# Altium integrated library Infineon_Power_MOSFET.IntLib: 1448 symbols (part 40 of 47)
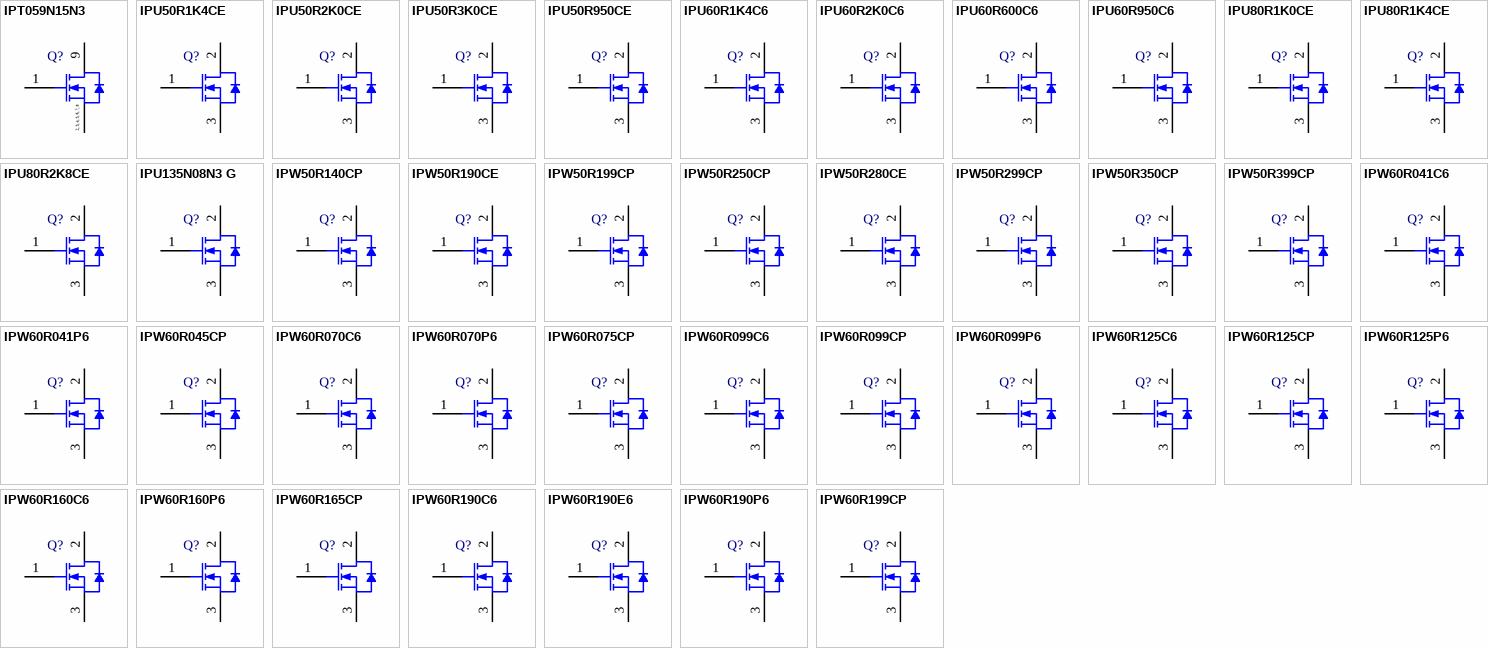
[diagram p76: symbols IPT059N15N3 to IPW60R199CP]

## IPW60R041C6
designator Q?
N-Channel CoolMOS C6 Power-Transistor, 600 V VDS, 77.5 A ID, -55 to 150 degC, PG-TO247-3-44, Tube, Green; Manufacturer: Infineon; PartNumber: IPW60R041C6; Green: TRUE; ID (max): 77.5 A; IDpuls (max): 272 A; Polarity: N; Ptot (max): 481 W; QG: 290 nC; RDS (on) (max): 41 mOhm; Rth: 0.26 K/W; RthJA (max): 62 K/W; VDS (max): 600 V; VGS(th) (max): 3.5 V; VGS(th) (min): 2.5 V; DatasheetVersion: Rev. 2.1; PackageVersion: Rev. 03; PackageReference: PG-TO247-3-44; PackageDescription: 3-Pin Plastic (Green) Transistor Single Outline Package, 15.94 x 20.95 mm Body, 5.44 mm Pitch; Supplier 1: Mouser; Supplier Part Number 1: 726-IPW60R041C6; Supplier 2: Newark; Supplier Part Number 2: 30T1850; Supplier 3: Farnell; Supplier Part Number 3: 1860840; Supplier 4: Digi-Key; Supplier Part Number 4: IPW60R041C6-ND; Halogen-free: available; Packing: Tube; RthJC (max): 0.26 K/W; Technology: CoolMOS C6; Mounting Technology: Through Hole; ComponentLink1Description: Manufacturer URL; ComponentLink1URL: http://www.infineon.com/; ComponentLink2Description: Datasheet; ComponentLink2URL: http://www.infineon.com/dgdl/IPW60R041C6_2.1_.pdf?folderId=db3a3043163797a6011637d4bae7003b&fileId=db3a304327b897500127f24dd83c3c09; ComponentLink3Description: Package Specification; ComponentLink3URL: http://www.infineon.com/cms/packages/Leaded_and_through-hole/P-PG-TO247/P-PG-TO247-3-44.html?__locale=en
footprint INF-PG-TO247-3-44 (FM, 3-Leads, Body 5.02x15.94mm, Pitch 5.44mm)
pins: 1 GATE, 2 DRAIN, 3 SOURCE

## IPW60R041P6
designator Q?
N-Channel CoolMOS(TM) P6 Power Transistor, 600 V VDS, -55 to 150 degC, PG-TO247-3, Tube, Green; Manufacturer: Infineon; PartNumber: IPW60R041P6; Green: TRUE; Polarity: FALSE; RDS (on) (max): 41 mOhm; VDS (max): 600 V; DatasheetVersion: Rev. 2.0; PackageVersion: Rev. 05, 07/2010; PackageReference: PG-TO247-3-44_A; PackageDescription: 3-Pin Plastic (Green) Transistor Single Outline Package, 15.915 x 20.95 mm Body, 5.44 mm Pitch; Supplier 1: Mouser; Supplier Part Number 1: N/A; Halogen-free: TRUE; Packing: Tube; Mounting Technology: Through Hole; ComponentLink1Description: Manufacturer URL; ComponentLink1URL: http://www.infineon.com/; ComponentLink2Description: Datasheet; ComponentLink2URL: http://www.infineon.com/dgdl/DS_IPW60R041P6_2_0.pdf?folderId=db3a3043156fd5730115c736bcc70ff2&fileId=5546d461464245d3014694fd2814695e; ComponentLink3Description: Package Specification; ComponentLink3URL: http://www.infineon.com/dgdl/IJW120R070T1-final+datasheet+2+0.pdf?folderId=db3a304341e0aed0014203508c870e38&fileId=db3a304341e0aed0014203597c420ec5
footprint INF-PG-TO247-3-44_A (FM, 3-Leads, Body 15.915x5.02mm, Pitch 5.44mm)
pins: 1 GATE, 2 DRAIN, 3 SOURCE

## IPW60R045CP
designator Q?
N-Channel CoolMOS Power-Transistor, 600 V VDS, 60 A ID, -55 to 150 degC, PG-TO247-3-44, Tube, Green; Manufacturer: Infineon; PartNumber: IPW60R045CP; Green: TRUE; ID (max): 60 A; IDpuls (max): 230 A; Polarity: N; Ptot (max): 431 W; QG: 150 nC; RDS (on) (max): 45 mOhm; Rth: 0.3 K/W; RthJA (max): 62 K/W; RthJC (max): 0.29 K/W; VDS (max): 600 V; VGS(th) (max): 3.5 V; VGS(th) (min): 2.5 V; DatasheetVersion: Rev. 2.2; PackageVersion: Rev. 03; PackageReference: PG-TO247-3-44; PackageDescription: 3-Pin Plastic (Green) Transistor Single Outline Package, 15.94 x 20.95 mm Body, 5.44 mm Pitch; Supplier 1: Mouser; Supplier Part Number 1: 726-IPW60R045CP; Supplier 2: Newark; Supplier Part Number 2: 33P7194; Supplier 3: Farnell; Supplier Part Number 3: 1664083; Supplier 4: Digi-Key; Supplier Part Number 4: IPW60R045CPIN-ND; Halogen-free: available; Packing: Tube; Technology: CoolMOS CP; Mounting Technology: Through Hole; ComponentLink1Description: Manufacturer URL; ComponentLink1URL: http://www.infineon.com/; ComponentLink2Description: Datasheet; ComponentLink2URL: http://www.infineon.com/dgdl/IPW60R045CP_rev2.2+PCN.pdf?folderId=db3a304412b407950112b408e8c90004&fileId=db3a304412b407950112b42d8e55489b; ComponentLink3Description: Package Specification; ComponentLink3URL: http://www.infineon.com/cms/packages/Leaded_and_through-hole/P-PG-TO247/P-PG-TO247-3-44.html?__locale=en
footprint INF-PG-TO247-3-44 (FM, 3-Leads, Body 5.02x15.94mm, Pitch 5.44mm)
pins: 1 GATE, 2 DRAIN, 3 SOURCE

## IPW60R070C6
designator Q?
N-Channel CoolMOS C6 Power-Transistor, 600 V VDS, 53 A ID, -55 to 150 degC, PG-TO247-3-44, Tube, Green; Manufacturer: Infineon; PartNumber: IPW60R070C6; Green: TRUE; ID (max): 53 A; IDpuls (max): 159 A; Polarity: N; Ptot (max): 391 W; QG: 170 nC; RDS (on) (max): 70 mOhm; Rth: 0.32 K/W; RthJA (max): 62 K/W; VDS (max): 600 V; VGS(th) (max): 3.5 V; VGS(th) (min): 2.5 V; DatasheetVersion: Rev. 2.1; PackageVersion: Rev. 03; PackageReference: PG-TO247-3-44; PackageDescription: 3-Pin Plastic (Green) Transistor Single Outline Package, 15.94 x 20.95 mm Body, 5.44 mm Pitch; Supplier 1: Mouser; Supplier Part Number 1: 726-IPW60R070C6; Supplier 2: Farnell; Supplier Part Number 2: 1860839; Supplier 3: Digi-Key; Supplier Part Number 3: IPW60R070C6-ND; Halogen-free: available; Packing: Tube; RthJC (max): 0.32 K/W; Technology: CoolMOS C6; Mounting Technology: Through Hole; ComponentLink1Description: Manufacturer URL; ComponentLink1URL: http://www.infineon.com/; ComponentLink2Description: Datasheet; ComponentLink2URL: http://www.infineon.com/dgdl/IPW60R070C6_V2.1a_.pdf?folderId=db3a3043156fd5730115c736bcc70ff2&fileId=db3a30432313ff5e01232862aa644ac5; ComponentLink3Description: Package Specification; ComponentLink3URL: http://www.infineon.com/cms/packages/Leaded_and_through-hole/P-PG-TO247/P-PG-TO247-3-44.html?__locale=en
footprint INF-PG-TO247-3-44 (FM, 3-Leads, Body 5.02x15.94mm, Pitch 5.44mm)
pins: 1 GATE, 2 DRAIN, 3 SOURCE

## IPW60R070P6
designator Q?
N-Channel CoolMOS(TM) P6 Power Transistor, 600 V VDS, -55 to 150 degC, PG-TO247-3, Tube, Green; Manufacturer: Infineon; PartNumber: IPW60R070P6; Green: TRUE; Polarity: FALSE; RDS (on) (max): 70 mOhm; VDS (max): 600 V; DatasheetVersion: Rev. 2.0; PackageVersion: Rev. 05, 07/2010; PackageReference: PG-TO247-3-44_A; PackageDescription: 3-Pin Plastic (Green) Transistor Single Outline Package, 15.915 x 20.95 mm Body, 5.44 mm Pitch; Supplier 1: Mouser; Supplier Part Number 1: N/A; Halogen-free: TRUE; Packing: Tube; Mounting Technology: Through Hole; ComponentLink1Description: Manufacturer URL; ComponentLink1URL: http://www.infineon.com/; ComponentLink2Description: Datasheet; ComponentLink2URL: http://www.infineon.com/dgdl/DS_IPW60R070P6_2_0.pdf?folderId=db3a3043156fd5730115c736bcc70ff2&fileId=5546d461464245d3014694ab3f43692e; ComponentLink3Description: Package Specification; ComponentLink3URL: http://www.infineon.com/dgdl/IJW120R070T1-final+datasheet+2+0.pdf?folderId=db3a304341e0aed0014203508c870e38&fileId=db3a304341e0aed0014203597c420ec5
footprint INF-PG-TO247-3-44_A (FM, 3-Leads, Body 15.915x5.02mm, Pitch 5.44mm)
pins: 1 GATE, 2 DRAIN, 3 SOURCE

## IPW60R075CP
designator Q?
N-Channel CoolMOS Power-Transistor, 600 V VDS, 39 A ID, -55 to 150 degC, PG-TO247-3-44, Tube, Green; Manufacturer: Infineon; PartNumber: IPW60R075CP; Green: TRUE; ID (max): 39 A; IDpuls (max): 130 A; Polarity: N; Ptot (max): 313 W; QG: 27 nC; RDS (on) (max): 75 mOhm; Rth: 1.2 K/W; RthJA (max): 62 K/W; RthJC (max): 0.4 K/W; VDS (max): 600 V; VGS(th) (max): 3.5 V; VGS(th) (min): 2.5 V; DatasheetVersion: Rev. 2.3; PackageVersion: Rev. 03; PackageReference: PG-TO247-3-44; PackageDescription: 3-Pin Plastic (Green) Transistor Single Outline Package, 15.94 x 20.95 mm Body, 5.44 mm Pitch; Supplier 1: Mouser; Supplier Part Number 1: 726-IPW60R075CP; Supplier 2: Farnell; Supplier Part Number 2: 1664084; Supplier 3: Digi-Key; Supplier Part Number 3: IPW60R075CPIN-ND; Halogen-free: available; Packing: Tube; Technology: CoolMOS CP; Mounting Technology: Through Hole; ComponentLink1Description: Manufacturer URL; ComponentLink1URL: http://www.infineon.com/; ComponentLink2Description: Datasheet; ComponentLink2URL: http://www.infineon.com/dgdl/IPW60R075CP_rev2+3_PCN.pdf?folderId=db3a304314dca38901152838487312ae&fileId=db3a304314dca38901152855d78912ce; ComponentLink3Description: Package Specification; ComponentLink3URL: http://www.infineon.com/cms/packages/Leaded_and_through-hole/P-PG-TO247/P-PG-TO247-3-44.html?__locale=en
footprint INF-PG-TO247-3-44 (FM, 3-Leads, Body 5.02x15.94mm, Pitch 5.44mm)
pins: 1 GATE, 2 DRAIN, 3 SOURCE

## IPW60R099C6
designator Q?
N-Channel CoolMOS C6 Power-Transistor, 600 V VDS, 38 A ID, -55 to 150 degC, PG-TO247-3-44, Tube, Green; Manufacturer: Infineon; PartNumber: IPW60R099C6; Green: TRUE; ID (max): 38 A; IDpuls (max): 112 A; Polarity: N; Ptot (max): 278 W; QG: 119 nC; RDS (on) (max): 99 mOhm; Rth: 0.45 K/W; RthJA (max): 62 K/W; VDS (max): 600 V; VGS(th) (max): 3.5 V; VGS(th) (min): 2.5 V; DatasheetVersion: Rev. 2.1; PackageVersion: Rev. 03; PackageReference: PG-TO247-3-44; PackageDescription: 3-Pin Plastic (Green) Transistor Single Outline Package, 15.94 x 20.95 mm Body, 5.44 mm Pitch; Supplier 1: Mouser; Supplier Part Number 1: 726-IPW60R099C6; Supplier 2: Digi-Key; Supplier Part Number 2: IPW60R099C6-ND; Halogen-free: available; Packing: Tube; RthJC (max): 0.45 K/W; Technology: CoolMOS C6; Mounting Technology: Through Hole; ComponentLink1Description: Manufacturer URL; ComponentLink1URL: http://www.infineon.com/; ComponentLink2Description: Datasheet; ComponentLink2URL: http://www.infineon.com/dgdl/IPW60R099C6_2_1.pdf?folderId=db3a3043163797a6011638933eda014b&fileId=db3a30432313ff5e012394d9f7c606ae; ComponentLink3Description: Package Specification; ComponentLink3URL: http://www.infineon.com/cms/packages/Leaded_and_through-hole/P-PG-TO247/P-PG-TO247-3-44.html?__locale=en
footprint INF-PG-TO247-3-44 (FM, 3-Leads, Body 5.02x15.94mm, Pitch 5.44mm)
pins: 1 GATE, 2 DRAIN, 3 SOURCE

## IPW60R099CP
designator Q?
N-Channel CoolMOS Power-Transistor, 600 V VDS, 31 A ID, -55 to 150 degC, PG-TO247-3-44, Tube, Green; Manufacturer: Infineon; PartNumber: IPW60R099CP; Green: TRUE; ID (max): 31 A; IDpuls (max): 93 A; Polarity: N; Ptot (max): 255 W; QG: 60 nC; RDS (on) (max): 99 mOhm; Rth: 0.5 K/W; RthJA (max): 62 K/W; VDS (max): 600 V; VGS(th) (max): 3.5 V; VGS(th) (min): 2.5 V; DatasheetVersion: Rev. 2.1; PackageVersion: Rev. 03; PackageReference: PG-TO247-3-44; PackageDescription: 3-Pin Plastic (Green) Transistor Single Outline Package, 15.94 x 20.95 mm Body, 5.44 mm Pitch; Supplier 1: Mouser; Supplier Part Number 1: 726-IPW60R099CP; Supplier 2: Newark; Supplier Part Number 2: 61M6806; Supplier 3: Farnell; Supplier Part Number 3: 1471753; Supplier 4: Digi-Key; Supplier Part Number 4: IPW60R099CP-ND; Halogen-free: available; Packing: Tube; RthJC (max): 0.5 K/W; Technology: CoolMOS CP; Mounting Technology: Through Hole; ComponentLink1Description: Manufacturer URL; ComponentLink1URL: http://www.infineon.com/; ComponentLink2Description: Datasheet; ComponentLink2URL: http://www.infineon.com/dgdl/IPW60R099CP_rev2%5B1%5D.1_PCN.pdf?folderId=db3a304412b407950112b408e8c90004&fileId=db3a304412b407950112b42ca4c24745; ComponentLink3Description: Package Specification; ComponentLink3URL: http://www.infineon.com/cms/packages/Leaded_and_through-hole/P-PG-TO247/P-PG-TO247-3-44.html?__locale=en
footprint INF-PG-TO247-3-44 (FM, 3-Leads, Body 5.02x15.94mm, Pitch 5.44mm)
pins: 1 GATE, 2 DRAIN, 3 SOURCE

## IPW60R099P6
designator Q?
N-Channel CoolMOS(TM) P6 Power Transistor, 600 V VDS, -55 to 150 degC, PG-TO247-3, Tube, Green; Manufacturer: Infineon; PartNumber: IPW60R099P6; Green: TRUE; Polarity: FALSE; RDS (on) (max): 99 mOhm; VDS (max): 600 V; DatasheetVersion: Rev. 2.0; PackageVersion: Rev. 05, 07/2010; PackageReference: PG-TO247-3-44_A; PackageDescription: 3-Pin Plastic (Green) Transistor Single Outline Package, 15.915 x 20.95 mm Body, 5.44 mm Pitch; Supplier 1: Mouser; Supplier Part Number 1: N/A; Halogen-free: TRUE; Packing: Tube; Mounting Technology: Through Hole; ComponentLink1Description: Manufacturer URL; ComponentLink1URL: http://www.infineon.com/; ComponentLink2Description: Datasheet; ComponentLink2URL: http://www.infineon.com/dgdl/DS_IPW60R099P6_2_0.pdf?folderId=db3a3043156fd5730115c736bcc70ff2&fileId=5546d461464245d301469454f01668f1; ComponentLink3Description: Package Specification; ComponentLink3URL: http://www.infineon.com/dgdl/IJW120R070T1-final+datasheet+2+0.pdf?folderId=db3a304341e0aed0014203508c870e38&fileId=db3a304341e0aed0014203597c420ec5
footprint INF-PG-TO247-3-44_A (FM, 3-Leads, Body 15.915x5.02mm, Pitch 5.44mm)
pins: 1 GATE, 2 DRAIN, 3 SOURCE

## IPW60R125C6
designator Q?
N-Channel CoolMOS C6 Power-Transistor, 600 V VDS, 30 A ID, -55 to 150 degC, PG-TO247-3-44, Tube, Green; Manufacturer: Infineon; PartNumber: IPW60R125C6; Green: TRUE; ID (max): 30 A; IDpuls (max): 89 A; Polarity: N; Ptot (max): 219 W; QG: 96 nC; RDS (on) (max): 125 mOhm; Rth: 0.57 K/W; RthJA (max): 62 K/W; VDS (max): 600 V; VGS(th) (max): 3.5 V; VGS(th) (min): 2.5 V; DatasheetVersion: Rev. 2.1; PackageVersion: Rev. 03; PackageReference: PG-TO247-3-44; PackageDescription: 3-Pin Plastic (Green) Transistor Single Outline Package, 15.94 x 20.95 mm Body, 5.44 mm Pitch; Supplier 1: Mouser; Supplier Part Number 1: 726-IPW60R125C6; Supplier 2: Digi-Key; Supplier Part Number 2: IPW60R125C6-ND; Halogen-free: available; Packing: Tube; RthJC (max): 0.57 K/W; Technology: CoolMOS C6; Mounting Technology: Through Hole; ComponentLink1Description: Manufacturer URL; ComponentLink1URL: http://www.infineon.com/; ComponentLink2Description: Datasheet; ComponentLink2URL: http://www.infineon.com/dgdl/IPW60R125C6_2_1.pdf?folderId=db3a3043163797a6011637d4bae7003b&fileId=db3a30432313ff5e01235b1ae8fc4910; ComponentLink3Description: Package Specification; ComponentLink3URL: http://www.infineon.com/cms/packages/Leaded_and_through-hole/P-PG-TO247/P-PG-TO247-3-44.html?__locale=en
footprint INF-PG-TO247-3-44 (FM, 3-Leads, Body 5.02x15.94mm, Pitch 5.44mm)
pins: 1 GATE, 2 DRAIN, 3 SOURCE

## IPW60R125CP
designator Q?
N-Channel CoolMOS Power-Transistor, 600 V VDS, 25 A ID, -55 to 150 degC, PG-TO247-3-44, Tube, Green; Manufacturer: Infineon; PartNumber: IPW60R125CP; Green: TRUE; ID (max): 25 A; IDpuls (max): 82 A; Polarity: N; Ptot (max): 208 W; QG: 53 nC; RDS (on) (max): 125 mOhm; Rth: 0.6 K/W; RthJA (max): 62 K/W; VDS (max): 600 V; VGS(th) (max): 3.5 V; VGS(th) (min): 2.5 V; DatasheetVersion: Rev. 2.2; PackageVersion: Rev. 03; PackageReference: PG-TO247-3-44; PackageDescription: 3-Pin Plastic (Green) Transistor Single Outline Package, 15.94 x 20.95 mm Body, 5.44 mm Pitch; Supplier 1: Mouser; Supplier Part Number 1: 726-IPW60R125CP; Supplier 2: Newark; Supplier Part Number 2: 47W3484; Supplier 3: Farnell; Supplier Part Number 3: 2212865; Supplier 4: Digi-Key; Supplier Part Number 4: IPW60R125CP-ND; Halogen-free: available; Packing: Tube; RthJC (max): 0.6 K/W; Technology: CoolMOS CP; Mounting Technology: Through Hole; ComponentLink1Description: Manufacturer URL; ComponentLink1URL: http://www.infineon.com/; ComponentLink2Description: Datasheet; ComponentLink2URL: http://www.infineon.com/dgdl/IPW60R125CP_rev2%5B1%5D.2_PCN.pdf?folderId=db3a304412b407950112b408e8c90004&fileId=db3a304412b407950112b42e5bf349af; ComponentLink3Description: Package Specification; ComponentLink3URL: http://www.infineon.com/cms/packages/Leaded_and_through-hole/P-PG-TO247/P-PG-TO247-3-44.html?__locale=en
footprint INF-PG-TO247-3-44 (FM, 3-Leads, Body 5.02x15.94mm, Pitch 5.44mm)
pins: 1 GATE, 2 DRAIN, 3 SOURCE

## IPW60R125P6
designator Q?
N-Channel CoolMOS(TM) P6 Power Transistor, 600 V VDS, -55 to 150 degC, PG-TO247-3, Tube, Green; Manufacturer: Infineon; PartNumber: IPW60R125P6; Green: TRUE; Polarity: FALSE; RDS (on) (max): 125 mOhm; VDS (max): 600 V; DatasheetVersion: Rev. 2.0; PackageVersion: Rev. 05, 07/2010; PackageReference: PG-TO247-3-44_A; PackageDescription: 3-Pin Plastic (Green) Transistor Single Outline Package, 15.915 x 20.95 mm Body, 5.44 mm Pitch; Supplier 1: Mouser; Supplier Part Number 1: N/A; Halogen-free: TRUE; Packing: Tube; Mounting Technology: Through Hole; ComponentLink1Description: Manufacturer URL; ComponentLink1URL: http://www.infineon.com/; ComponentLink2Description: Datasheet; ComponentLink2URL: http://www.infineon.com/dgdl/DS_IPW60R125P6_2_0.pdf?folderId=db3a3043156fd5730115c736bcc70ff2&fileId=5546d461464245d301468b30f1c166d2; ComponentLink3Description: Package Specification; ComponentLink3URL: http://www.infineon.com/dgdl/IJW120R070T1-final+datasheet+2+0.pdf?folderId=db3a304341e0aed0014203508c870e38&fileId=db3a304341e0aed0014203597c420ec5
footprint INF-PG-TO247-3-44_A (FM, 3-Leads, Body 15.915x5.02mm, Pitch 5.44mm)
pins: 1 GATE, 2 DRAIN, 3 SOURCE

## IPW60R160C6
designator Q?
N-Channel CoolMOS C6 Power-Transistor, 600 V VDS, 23.8 A ID, -55 to 150 degC, PG-TO247-3-44, Tube, Green; Manufacturer: Infineon; PartNumber: IPW60R160C6; Green: TRUE; ID (max): 23.8 A; IDpuls (max): 70 A; Polarity: N; Ptot (max): 176 W; QG: 75 nC; RDS (on) (max): 160 mOhm; Rth: 0.71 K/W; RthJA (max): 62 K/W; VDS (max): 600 V; VGS(th) (max): 3.5 V; VGS(th) (min): 2.5 V; DatasheetVersion: Rev. 2.1; PackageVersion: Rev. 03; PackageReference: PG-TO247-3-44; PackageDescription: 3-Pin Plastic (Green) Transistor Single Outline Package, 15.94 x 20.95 mm Body, 5.44 mm Pitch; Supplier 1: Mouser; Supplier Part Number 1: 726-IPW60R160C6; Supplier 2: Newark; Supplier Part Number 2: 30T1853; Supplier 3: Farnell; Supplier Part Number 3: 1860836; Supplier 4: Digi-Key; Supplier Part Number 4: IPW60R160C6-ND; Halogen-free: available; Packing: Tube; RthJC (max): 0.71 K/W; Technology: CoolMOS C6; Mounting Technology: Through Hole; ComponentLink1Description: Manufacturer URL; ComponentLink1URL: http://www.infineon.com/; ComponentLink2Description: Datasheet; ComponentLink2URL: http://www.infineon.com/dgdl/IPW60R160C6_2_1.pdf?folderId=db3a3043163797a6011638933eda014b&fileId=db3a304323b87bc20123f06faac140e3; ComponentLink3Description: Package Specification; ComponentLink3URL: http://www.infineon.com/cms/packages/Leaded_and_through-hole/P-PG-TO247/P-PG-TO247-3-44.html?__locale=en
footprint INF-PG-TO247-3-44 (FM, 3-Leads, Body 5.02x15.94mm, Pitch 5.44mm)
pins: 1 GATE, 2 DRAIN, 3 SOURCE

## IPW60R160P6
designator Q?
N-Channel CoolMOS(TM) P6 Power Transistor, 600 V VDS, -55 to 150 degC, PG-TO247-3, Tube, Green; Manufacturer: Infineon; PartNumber: IPW60R160P6; Green: TRUE; Polarity: FALSE; RDS (on) (max): 160 mOhm; VDS (max): 600 V; DatasheetVersion: Rev. 2.1; PackageVersion: Rev. 05, 07/2010; PackageReference: PG-TO247-3-44_A; PackageDescription: 3-Pin Plastic (Green) Transistor Single Outline Package, 15.915 x 20.95 mm Body, 5.44 mm Pitch; Supplier 1: Mouser; Supplier Part Number 1: N/A; Halogen-free: TRUE; Packing: Tube; Mounting Technology: Through Hole; ComponentLink1Description: Manufacturer URL; ComponentLink1URL: http://www.infineon.com/; ComponentLink2Description: Datasheet; ComponentLink2URL: http://www.infineon.com/dgdl/DS_IPx60R160P6_2_1.pdf?folderId=db3a3043156fd5730115c736bcc70ff2&fileId=db3a3043414fd3ef01415efd27711e0b; ComponentLink3Description: Package Specification; ComponentLink3URL: http://www.infineon.com/dgdl/IJW120R070T1-final+datasheet+2+0.pdf?folderId=db3a304341e0aed0014203508c870e38&fileId=db3a304341e0aed0014203597c420ec5
footprint INF-PG-TO247-3-44_A (FM, 3-Leads, Body 15.915x5.02mm, Pitch 5.44mm)
pins: 1 GATE, 2 DRAIN, 3 SOURCE

## IPW60R165CP
designator Q?
N-Channel CoolMOS Power-Transistor, 600 V VDS, 21 A ID, -55 to 150 degC, PG-TO247-3-44, Tube, Green; Manufacturer: Infineon; PartNumber: IPW60R165CP; Green: TRUE; ID (max): 21 A; IDpuls (max): 61 A; Polarity: N; Ptot (max): 192 W; QG: 39 nC; RDS (on) (max): 165 mOhm; Rth: 0.65 K/W; RthJA (max): 62 K/W; VDS (max): 600 V; VGS(th) (max): 3.5 V; VGS(th) (min): 2.5 V; DatasheetVersion: Rev. 2.2; PackageVersion: Rev. 03; PackageReference: PG-TO247-3-44; PackageDescription: 3-Pin Plastic (Green) Transistor Single Outline Package, 15.94 x 20.95 mm Body, 5.44 mm Pitch; Supplier 1: Mouser; Supplier Part Number 1: 726-IPW60R165CP; Supplier 2: Newark; Supplier Part Number 2: 61M6808; Supplier 3: Farnell; Supplier Part Number 3: 1471755; Supplier 4: Digi-Key; Supplier Part Number 4: IPW60R165CP-ND; Halogen-free: available; Packing: Tube; RthJC (max): 0.65 K/W; Technology: CoolMOS CP; Mounting Technology: Through Hole; ComponentLink1Description: Manufacturer URL; ComponentLink1URL: http://www.infineon.com/; ComponentLink2Description: Datasheet; ComponentLink2URL: http://www.infineon.com/dgdl/IPW60R165CP_rev2%5B1%5D.2_PCN.pdf?folderId=db3a304412b407950112b408e8c90004&fileId=db3a304412b407950112b42d915e489f; ComponentLink3Description: Package Specification; ComponentLink3URL: http://www.infineon.com/cms/packages/Leaded_and_through-hole/P-PG-TO247/P-PG-TO247-3-44.html?__locale=en
footprint INF-PG-TO247-3-44 (FM, 3-Leads, Body 5.02x15.94mm, Pitch 5.44mm)
pins: 1 GATE, 2 DRAIN, 3 SOURCE

## IPW60R190C6
designator Q?
N-Channel CoolMOS C6 Power-Transistor, 600 V VDS, 20.2 A ID, -55 to 150 degC, PG-TO247-3-44, Tube, Green; Manufacturer: Infineon; PartNumber: IPW60R190C6; Green: TRUE; ID (max): 20.2 A; IDpuls (max): 59 A; Polarity: N; Ptot (max): 151 W; QG: 63 nC; RDS (on) (max): 190 mOhm; Rth: 0.83 K/W; RthJA (max): 62 K/W; VDS (max): 600 V; VGS(th) (max): 3.5 V; VGS(th) (min): 2.5 V; DatasheetVersion: Rev. 2.1; PackageVersion: Rev. 03; PackageReference: PG-TO247-3-44; PackageDescription: 3-Pin Plastic (Green) Transistor Single Outline Package, 15.94 x 20.95 mm Body, 5.44 mm Pitch; Supplier 1: Mouser; Supplier Part Number 1: 726-IPW60R190C6; Supplier 2: Farnell; Supplier Part Number 2: 1860834; Supplier 3: Digi-Key; Supplier Part Number 3: IPW60R190C6-ND; Halogen-free: available; Packing: Tube; RthJC (max): 0.83 K/W; Technology: CoolMOS C6; Mounting Technology: Through Hole; ComponentLink1Description: Manufacturer URL; ComponentLink1URL: http://www.infineon.com/; ComponentLink2Description: Datasheet; ComponentLink2URL: http://www.infineon.com/dgdl/IPW60R190C6_2_1.pdf?folderId=db3a30431ff98815012019af55de3f2c&fileId=db3a304320d39d590121f895e912201a; ComponentLink3Description: Package Specification; ComponentLink3URL: http://www.infineon.com/cms/packages/Leaded_and_through-hole/P-PG-TO247/P-PG-TO247-3-44.html?__locale=en
footprint INF-PG-TO247-3-44 (FM, 3-Leads, Body 5.02x15.94mm, Pitch 5.44mm)
pins: 1 GATE, 2 DRAIN, 3 SOURCE

## IPW60R190E6
designator Q?
N-Channel CoolMOS E6 Power-Transistor, 600 V VDS, 20.2 A ID, -55 to 150 degC, PG-TO247-3-44, Tube, Green; Manufacturer: Infineon; PartNumber: IPW60R190E6; Green: TRUE; ID (max): 20.2 A; IDpuls (max): 59 A; Polarity: N; Ptot (max): 151 W; QG: 63 nC; RDS (on) (max): 190 mOhm; Rth: 0.83 K/W; RthJA (max): 62 K/W; VDS (max): 600 V; VGS(th) (max): 3.5 V; VGS(th) (min): 2.5 V; DatasheetVersion: Rev. 2.0; PackageVersion: Rev. 03; PackageReference: PG-TO247-3-44; PackageDescription: 3-Pin Plastic (Green) Transistor Single Outline Package, 15.94 x 20.95 mm Body, 5.44 mm Pitch; Supplier 1: Mouser; Supplier Part Number 1: 726-IPW60R190E6; Supplier 2: Digi-Key; Supplier Part Number 2: IPW60R190E6-ND; Halogen-free: available; Packing: Tube; RthJC (max): 0.83 K/W; Technology: CoolMOS E6; Mounting Technology: Through Hole; ComponentLink1Description: Manufacturer URL; ComponentLink1URL: http://www.infineon.com/; ComponentLink2Description: Datasheet; ComponentLink2URL: http://www.infineon.com/dgdl/IPW60R190E6_2_0.pdf?folderId=db3a3043163797a6011637d4bae7003b&fileId=db3a3043284aacd801286cadc33a2932; ComponentLink3Description: Package Specification; ComponentLink3URL: http://www.infineon.com/cms/packages/Leaded_and_through-hole/P-PG-TO247/P-PG-TO247-3-44.html?__locale=en
footprint INF-PG-TO247-3-44 (FM, 3-Leads, Body 5.02x15.94mm, Pitch 5.44mm)
pins: 1 GATE, 2 DRAIN, 3 SOURCE

## IPW60R190P6
designator Q?
N-Channel CoolMOS(TM) P6 Power Transistor, 600 V VDS, -55 to 150 degC, PG-TO247-3, Tube, Green; Manufacturer: Infineon; PartNumber: IPW60R190P6; Green: TRUE; Polarity: FALSE; RDS (on) (max): 190 mOhm; VDS (max): 600 V; DatasheetVersion: Rev. 2.1; PackageVersion: Rev. 05, 07/2010; PackageReference: PG-TO247-3-44_A; PackageDescription: 3-Pin Plastic (Green) Transistor Single Outline Package, 15.915 x 20.95 mm Body, 5.44 mm Pitch; Supplier 1: Digi-Key; Supplier Part Number 1: IPW60R190P6-ND; Supplier 2: Farnell; Supplier Part Number 2: 2420505; Supplier 3: Newark; Supplier Part Number 3: 54X5233; Halogen-free: TRUE; Packing: Tube; Mounting Technology: Through Hole; ComponentLink1Description: Manufacturer URL; ComponentLink1URL: http://www.infineon.com/; ComponentLink2Description: Datasheet; ComponentLink2URL: http://www.infineon.com/dgdl/DS_IPx60R190P6_2_1.pdf?folderId=db3a3043156fd5730115c736bcc70ff2&fileId=db3a30433f2e70c5013f37c80e24240f; ComponentLink3Description: Package Specification; ComponentLink3URL: http://www.infineon.com/dgdl/IJW120R070T1-final+datasheet+2+0.pdf?folderId=db3a304341e0aed0014203508c870e38&fileId=db3a304341e0aed0014203597c420ec5
footprint INF-PG-TO247-3-44_A (FM, 3-Leads, Body 15.915x5.02mm, Pitch 5.44mm)
pins: 1 GATE, 2 DRAIN, 3 SOURCE

## IPW60R199CP
designator Q?
N-Channel CoolMOS Power-Transistor, 600 V VDS, 16 A ID, -55 to 150 degC, PG-TO247-3-44, Tube, Green; Manufacturer: Infineon; PartNumber: IPW60R199CP; Green: TRUE; ID (max): 16 A; IDpuls (max): 51 A; Polarity: N; Ptot (max): 139 W; QG: 32 nC; RDS (on) (max): 199 mOhm; Rth: 0.9 K/W; RthJA (max): 62 K/W; VDS (max): 600 V; VGS(th) (max): 3.5 V; VGS(th) (min): 2.5 V; DatasheetVersion: Rev. 2.3; PackageVersion: Rev. 03; PackageReference: PG-TO247-3-44; PackageDescription: 3-Pin Plastic (Green) Transistor Single Outline Package, 15.94 x 20.95 mm Body, 5.44 mm Pitch; Supplier 1: Mouser; Supplier Part Number 1: 726-IPW60R199CP; Supplier 2: Farnell; Supplier Part Number 2: 1471756; Supplier 3: Digi-Key; Supplier Part Number 3: IPW60R199CP-ND; Halogen-free: available; Packing: Tube; RthJC (max): 0.9 K/W; Technology: CoolMOS CP; Mounting Technology: Through Hole; ComponentLink1Description: Manufacturer URL; ComponentLink1URL: http://www.infineon.com/; ComponentLink2Description: Datasheet; ComponentLink2URL: http://www.infineon.com/dgdl/IPW60R199CP_rev2.3.pdf?folderId=db3a304412b407950112b408e8c90004&fileId=db3a304412b407950112b42e44b8498f; ComponentLink3Description: Package Specification; ComponentLink3URL: http://www.infineon.com/cms/packages/Leaded_and_through-hole/P-PG-TO247/P-PG-TO247-3-44.html?__locale=en
footprint INF-PG-TO247-3-44 (FM, 3-Leads, Body 5.02x15.94mm, Pitch 5.44mm)
pins: 1 GATE, 2 DRAIN, 3 SOURCE

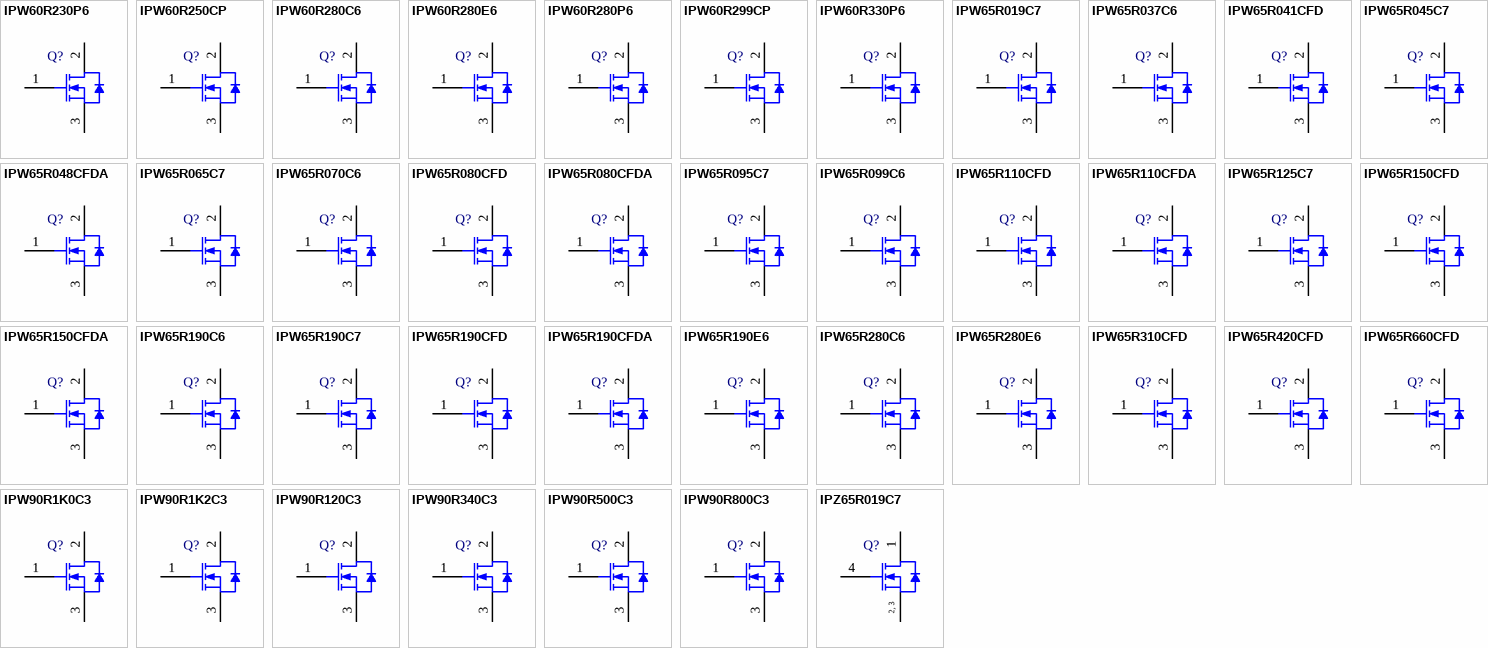
[diagram p32: symbols IPW60R230P6 to IPZ65R019C7]

## IPW60R230P6
designator Q?
N-Channel CoolMOS(TM) P6 Power Transistor, 600 V VDS, -55 to 150 degC, PG-TO247-3, Tube, Green; Manufacturer: Infineon; PartNumber: IPW60R230P6; Green: TRUE; Polarity: FALSE; RDS (on) (max): 230 mOhm; VDS (max): 600 V; DatasheetVersion: Rev. 2.1; PackageVersion: Rev. 05, 07/2010; PackageReference: PG-TO247-3-44_A; PackageDescription: 3-Pin Plastic (Green) Transistor Single Outline Package, 15.915 x 20.95 mm Body, 5.44 mm Pitch; Supplier 1: Mouser; Supplier Part Number 1: N/A; Halogen-free: TRUE; Packing: Tube; Mounting Technology: Through Hole; ComponentLink1Description: Manufacturer URL; ComponentLink1URL: http://www.infineon.com/; ComponentLink2Description: Datasheet; ComponentLink2URL: http://www.infineon.com/dgdl/DS_IPx60R230P6_2_1.pdf?folderId=db3a3043156fd5730115c736bcc70ff2&fileId=db3a3043414fd3ef01415f8ab7321ec1; ComponentLink3Description: Package Specification; ComponentLink3URL: http://www.infineon.com/dgdl/IJW120R070T1-final+datasheet+2+0.pdf?folderId=db3a304341e0aed0014203508c870e38&fileId=db3a304341e0aed0014203597c420ec5
footprint INF-PG-TO247-3-44_A (FM, 3-Leads, Body 15.915x5.02mm, Pitch 5.44mm)
pins: 1 GATE, 2 DRAIN, 3 SOURCE

## IPW60R250CP
designator Q?
N-Channel CoolMOS Power-Transistor, 600 V VDS, 12 A ID, -55 to 150 degC, PG-TO247-3-44, Tube, Green; Manufacturer: Infineon; PartNumber: IPW60R250CP; Green: TRUE; ID (max): 12 A; IDpuls (max): 40 A; Polarity: N; Ptot (max): 104 W; QG: 26 nC; RDS (on) (max): 250 mOhm; Rth: 1.2 K/W; RthJA (max): 62 K/W; VDS (max): 600 V; VGS(th) (max): 3.5 V; VGS(th) (min): 2.5 V; DatasheetVersion: Rev. 2.3; PackageVersion: Rev. 03; PackageReference: PG-TO247-3-44; PackageDescription: 3-Pin Plastic (Green) Transistor Single Outline Package, 15.94 x 20.95 mm Body, 5.44 mm Pitch; Supplier 1: Mouser; Supplier Part Number 1: 726-IPW60R250CP; Supplier 2: Digi-Key; Supplier Part Number 2: IPW60R250CP-ND; Halogen-free: available; Packing: Tube; RthJC (max): 1.2 K/W; Technology: CoolMOS CP; Mounting Technology: Through Hole; ComponentLink1Description: Manufacturer URL; ComponentLink1URL: http://www.infineon.com/; ComponentLink2Description: Datasheet; ComponentLink2URL: http://www.infineon.com/dgdl/IPW60R250CP_rev2.3_PCN.pdf?folderId=db3a30431ff98815012019af55de3f2c&fileId=db3a304320896aa201208b38102a008d; ComponentLink3Description: Package Specification; ComponentLink3URL: http://www.infineon.com/cms/packages/Leaded_and_through-hole/P-PG-TO247/P-PG-TO247-3-44.html?__locale=en
footprint INF-PG-TO247-3-44 (FM, 3-Leads, Body 5.02x15.94mm, Pitch 5.44mm)
pins: 1 GATE, 2 DRAIN, 3 SOURCE

## IPW60R280C6
designator Q?
N-Channel CoolMOS C6 Power-Transistor, 600 V VDS, 13.8 A ID, -55 to 150 degC, PG-TO247-3-44, Tube, Green; Manufacturer: Infineon; PartNumber: IPW60R280C6; Green: TRUE; ID (max): 13.8 A; IDpuls (max): 40 A; Polarity: N; Ptot (max): 104 W; QG: 43 nC; RDS (on) (max): 280 mOhm; Rth: 1.2 K/W; RthJA (max): 62 K/W; VDS (max): 600 V; VGS(th) (max): 3.5 V; VGS(th) (min): 2.5 V; DatasheetVersion: Rev. 2.1; PackageVersion: Rev. 03; PackageReference: PG-TO247-3-44; PackageDescription: 3-Pin Plastic (Green) Transistor Single Outline Package, 15.94 x 20.95 mm Body, 5.44 mm Pitch; Supplier 1: Mouser; Supplier Part Number 1: 726-IPW60R280C6; Supplier 2: Newark; Supplier Part Number 2: 30T1855; Supplier 3: Farnell; Supplier Part Number 3: 1860833; Supplier 4: Digi-Key; Supplier Part Number 4: IPW60R280C6-ND; Halogen-free: available; Packing: Tube; RthJC (max): 1.2 K/W; Technology: CoolMOS C6; Mounting Technology: Through Hole; ComponentLink1Description: Manufacturer URL; ComponentLink1URL: http://www.infineon.com/; ComponentLink2Description: Datasheet; ComponentLink2URL: http://www.infineon.com/dgdl/IPW60R280C6_2_1.pdf?folderId=db3a3043163797a6011638933eda014b&fileId=db3a30432313ff5e0123a4478e7f275a; ComponentLink3Description: Package Specification; ComponentLink3URL: http://www.infineon.com/cms/packages/Leaded_and_through-hole/P-PG-TO247/P-PG-TO247-3-44.html?__locale=en
footprint INF-PG-TO247-3-44 (FM, 3-Leads, Body 5.02x15.94mm, Pitch 5.44mm)
pins: 1 GATE, 2 DRAIN, 3 SOURCE

## IPW60R280E6
designator Q?
N-Channel CoolMOS E6 Power-Transistor, 600 V VDS, 13.8 A ID, -55 to 150 degC, PG-TO247-3-44, Tube, Green; Manufacturer: Infineon; PartNumber: IPW60R280E6; Green: TRUE; ID (max): 13.8 A; IDpuls (max): 40 A; Polarity: N; Ptot (max): 104 W; QG: 43 nC; RDS (on) (max): 280 mOhm; Rth: 1.2 K/W; RthJA (max): 62 K/W; VDS (max): 600 V; VGS(th) (max): 3.5 V; VGS(th) (min): 2.5 V; DatasheetVersion: Rev. 2.0; PackageVersion: Rev. 03; PackageReference: PG-TO247-3-44; PackageDescription: 3-Pin Plastic (Green) Transistor Single Outline Package, 15.94 x 20.95 mm Body, 5.44 mm Pitch; Supplier 1: Mouser; Supplier Part Number 1: 726-IPW60R280E6; Supplier 2: Digi-Key; Supplier Part Number 2: IPW60R280E6-ND; Halogen-free: available; Packing: Tube; RthJC (max): 1.2 K/W; Technology: CoolMOS E6; Mounting Technology: Through Hole; ComponentLink1Description: Manufacturer URL; ComponentLink1URL: http://www.infineon.com/; ComponentLink2Description: Datasheet; ComponentLink2URL: http://www.infineon.com/dgdl/IPW60R280E6_2.0.pdf?folderId=db3a3043163797a6011638933eda014b&fileId=db3a304327b8975001281fb7b4f54507; ComponentLink3Description: Package Specification; ComponentLink3URL: http://www.infineon.com/cms/packages/Leaded_and_through-hole/P-PG-TO247/P-PG-TO247-3-44.html?__locale=en
footprint INF-PG-TO247-3-44 (FM, 3-Leads, Body 5.02x15.94mm, Pitch 5.44mm)
pins: 1 GATE, 2 DRAIN, 3 SOURCE

## IPW60R280P6
designator Q?
N-Channel CoolMOS(TM) P6 Power Transistor, 600 V VDS, -55 to 150 degC, PG-TO247-3, Tube, Green; Manufacturer: Infineon; PartNumber: IPW60R280P6; Green: TRUE; Polarity: FALSE; RDS (on) (max): 280 mOhm; VDS (max): 600 V; DatasheetVersion: Rev. 2.1; PackageVersion: Rev. 05, 07/2010; PackageReference: PG-TO247-3-44_A; PackageDescription: 3-Pin Plastic (Green) Transistor Single Outline Package, 15.915 x 20.95 mm Body, 5.44 mm Pitch; Supplier 1: Farnell; Supplier Part Number 1: 2420504; Supplier 2: Newark; Supplier Part Number 2: 54X5234; Halogen-free: TRUE; Packing: Tube; Mounting Technology: Through Hole; ComponentLink1Description: Manufacturer URL; ComponentLink1URL: http://www.infineon.com/; ComponentLink2Description: Datasheet; ComponentLink2URL: http://www.infineon.com/dgdl/DS_IPx60R280P6_2_1.pdf?folderId=db3a3043156fd5730115c736bcc70ff2&fileId=db3a3043416e106e01416e269e3e0021; ComponentLink3Description: Package Specification; ComponentLink3URL: http://www.infineon.com/dgdl/IJW120R070T1-final+datasheet+2+0.pdf?folderId=db3a304341e0aed0014203508c870e38&fileId=db3a304341e0aed0014203597c420ec5
footprint INF-PG-TO247-3-44_A (FM, 3-Leads, Body 15.915x5.02mm, Pitch 5.44mm)
pins: 1 GATE, 2 DRAIN, 3 SOURCE

## IPW60R299CP
designator Q?
N-Channel CoolMOS Power-Transistor, 600 V VDS, 11 A ID, -55 to 150 degC, PG-TO247-3-44, Tube, Green; Manufacturer: Infineon; PartNumber: IPW60R299CP; Green: TRUE; ID (max): 11 A; IDpuls (max): 34 A; Polarity: N; Ptot (max): 96 W; QG: 22 nC; RDS (on) (max): 299 mOhm; Rth: 1.3 K/W; RthJA (max): 62 K/W; VDS (max): 600 V; VGS(th) (max): 3.5 V; VGS(th) (min): 2.5 V; DatasheetVersion: Rev. 2.2; PackageVersion: Rev. 03; PackageReference: PG-TO247-3-44; PackageDescription: 3-Pin Plastic (Green) Transistor Single Outline Package, 15.94 x 20.95 mm Body, 5.44 mm Pitch; Supplier 1: Mouser; Supplier Part Number 1: 726-IPW60R299CP; Supplier 2: Digi-Key; Supplier Part Number 2: IPW60R299CP-ND; Halogen-free: available; Packing: Tube; RthJC (max): 1.3 K/W; Technology: CoolMOS CP; Mounting Technology: Through Hole; ComponentLink1Description: Manufacturer URL; ComponentLink1URL: http://www.infineon.com/; ComponentLink2Description: Datasheet; ComponentLink2URL: http://www.infineon.com/dgdl/IPW60R299CP_rev2%5B1%5D.2_PCN.pdf?folderId=db3a304412b407950112b408e8c90004&fileId=db3a304412b407950112b42c74ff4703; ComponentLink3Description: Package Specification; ComponentLink3URL: http://www.infineon.com/cms/packages/Leaded_and_through-hole/P-PG-TO247/P-PG-TO247-3-44.html?__locale=en
footprint INF-PG-TO247-3-44 (FM, 3-Leads, Body 5.02x15.94mm, Pitch 5.44mm)
pins: 1 GATE, 2 DRAIN, 3 SOURCE

## IPW60R330P6
designator Q?
N-Channel CoolMOS(TM) P6 Power Transistor, 600 V VDS, -55 to 150 degC, PG-TO247-3, Tube, Green; Manufacturer: Infineon; PartNumber: IPW60R330P6; Green: TRUE; Polarity: FALSE; RDS (on) (max): 330 mOhm; VDS (max): 600 V; DatasheetVersion: Rev. 2.1; PackageVersion: Rev. 05, 07/2010; PackageReference: PG-TO247-3-44_A; PackageDescription: 3-Pin Plastic (Green) Transistor Single Outline Package, 15.915 x 20.95 mm Body, 5.44 mm Pitch; Supplier 1: Mouser; Supplier Part Number 1: N/A; Halogen-free: TRUE; Packing: Tube; Mounting Technology: Through Hole; ComponentLink1Description: Manufacturer URL; ComponentLink1URL: http://www.infineon.com/; ComponentLink2Description: Datasheet; ComponentLink2URL: http://www.infineon.com/dgdl/DS_IPx60R330P6_2_1.pdf?folderId=db3a3043156fd5730115c736bcc70ff2&fileId=db3a3043416e106e01416e6a5f240149; ComponentLink3Description: Package Specification; ComponentLink3URL: http://www.infineon.com/dgdl/IJW120R070T1-final+datasheet+2+0.pdf?folderId=db3a304341e0aed0014203508c870e38&fileId=db3a304341e0aed0014203597c420ec5
footprint INF-PG-TO247-3-44_A (FM, 3-Leads, Body 15.915x5.02mm, Pitch 5.44mm)
pins: 1 GATE, 2 DRAIN, 3 SOURCE

## IPW65R019C7
designator Q?
N-Channel CoolMOS(TM) C7 Power Transistor, 650 V VDS, -55 to 150 degC, PG-TO247-3, Tube, Green; Manufacturer: Infineon; PartNumber: IPW65R019C7; Green: TRUE; Polarity: FALSE; RDS (on) (max): 19 mOhm; VDS (max): 650 V; DatasheetVersion: Rev. 2.1; PackageVersion: Rev. 05, 07/2010; PackageReference: PG-TO247-3-44_A; PackageDescription: 3-Pin Plastic (Green) Transistor Single Outline Package, 15.915 x 20.95 mm Body, 5.44 mm Pitch; Supplier 1: Farnell; Supplier Part Number 1: 2420490; Supplier 2: Newark; Supplier Part Number 2: 52X6082; Supplier 3: Mouser; Supplier Part Number 3: 726-IPW65R019C7; Halogen-free: available; Packing: Tube; Mounting Technology: Through Hole; ComponentLink1Description: Manufacturer URL; ComponentLink1URL: http://www.infineon.com/; ComponentLink2Description: Datasheet; ComponentLink2URL: http://www.infineon.com/dgdl/DS_IPW65R019C7_2_1.pdf?folderId=db3a30431ff98815012019af55de3f2c&fileId=db3a30433e78ea82013e791a9f140093; ComponentLink3Description: Package Specification; ComponentLink3URL: http://www.infineon.com/dgdl/IJW120R070T1-final+datasheet+2+0.pdf?folderId=db3a304341e0aed0014203508c870e38&fileId=db3a304341e0aed0014203597c420ec5
footprint INF-PG-TO247-3-44_A (FM, 3-Leads, Body 15.915x5.02mm, Pitch 5.44mm)
pins: 1 GATE, 2 DRAIN, 3 SOURCE

## IPW65R037C6
designator Q?
N-Channel CoolMOS C6 Power-Transistor, 650 V VDS, 83.2 A ID, -55 to 150 degC, PG-TO247-3-44, Tube, Green; Manufacturer: Infineon; PartNumber: IPW65R037C6; Green: TRUE; ID (max): 83.2 A; IDpuls (max): 297 A; Polarity: N; Ptot (max): 500 W; QG: 330 nC; RDS (on) (max): 37 mOhm; Rth: 0.25 K/W; RthJA (max): 62 K/W; VDS (max): 650 V; VGS(th) (max): 3.5 V; VGS(th) (min): 2.5 V; DatasheetVersion: Rev. 2.0; PackageVersion: Rev. 03; PackageReference: PG-TO247-3-44; PackageDescription: 3-Pin Plastic (Green) Transistor Single Outline Package, 15.94 x 20.95 mm Body, 5.44 mm Pitch; Supplier 1: Mouser; Supplier Part Number 1: 726-IPW65R037C6; Halogen-free: available; Packing: Tube; RthJC (max): 0.25 K/W; Technology: CoolMOS C6; Mounting Technology: Through Hole; ComponentLink1Description: Manufacturer URL; ComponentLink1URL: http://www.infineon.com/; ComponentLink2Description: Datasheet; ComponentLink2URL: http://www.infineon.com/dgdl/IPW65R037C6_2_0.pdf?folderId=db3a3043163797a6011637d4bae7003b&fileId=db3a3043337a914d0133877a719210a9; ComponentLink3Description: Package Specification; ComponentLink3URL: http://www.infineon.com/cms/packages/Leaded_and_through-hole/P-PG-TO247/P-PG-TO247-3-44.html?__locale=en
footprint INF-PG-TO247-3-44 (FM, 3-Leads, Body 5.02x15.94mm, Pitch 5.44mm)
pins: 1 GATE, 2 DRAIN, 3 SOURCE

## IPW65R041CFD
designator Q?
N-Channel CoolMOS CFD2 Power-Transistor, 650 V VDS, 68.5 A ID, -55 to 150 degC, PG-TO247-3-44, Tube, Green; Manufacturer: Infineon; PartNumber: IPW65R041CFD; Green: TRUE; ID (max): 68.5 A; IDpuls (max): 255 A; Polarity: N; Ptot (max): 500 W; QG: 300 nC; RDS (on) (max): 41 mOhm; Rth: 0.25 K/W; RthJA (max): 62 K/W; VDS (max): 650 V; VGS(th) (max): 4.5 V; VGS(th) (min): 3.5 V; DatasheetVersion: Rev. 2.0; PackageVersion: Rev. 03; PackageReference: PG-TO247-3-44; PackageDescription: 3-Pin Plastic (Green) Transistor Single Outline Package, 15.94 x 20.95 mm Body, 5.44 mm Pitch; Supplier 1: Mouser; Supplier Part Number 1: 726-IPW65R041CFD; Supplier 2: Digi-Key; Supplier Part Number 2: IPW65R041CFD-ND; Halogen-free: available; Packing: Tube; RthJC (max): 0.25 K/W; Technology: CoolMOS CFD2; Mounting Technology: Through Hole; ComponentLink1Description: Manufacturer URL; ComponentLink1URL: http://www.infineon.com/; ComponentLink2Description: Datasheet; ComponentLink2URL: http://www.infineon.com/dgdl/DS_IPW65R041CFD__2_01_.pdf?folderId=db3a3043156fd5730115c736bcc70ff2&fileId=db3a3043337a914d01338408155d60f9; ComponentLink3Description: Package Specification; ComponentLink3URL: http://www.infineon.com/cms/packages/Leaded_and_through-hole/P-PG-TO247/P-PG-TO247-3-44.html?__locale=en
footprint INF-PG-TO247-3-44 (FM, 3-Leads, Body 5.02x15.94mm, Pitch 5.44mm)
pins: 1 GATE, 2 DRAIN, 3 SOURCE

## IPW65R045C7
designator Q?
N-Channel CoolMOS(TM) C7 Power Transistor, 650 V VDS, -55 to 150 degC, PG-TO247-3, Tube, Green; Manufacturer: Infineon; PartNumber: IPW65R045C7; Green: TRUE; Polarity: FALSE; RDS (on) (max): 45 mOhm; VDS (max): 650 V; DatasheetVersion: Rev. 2.1; PackageVersion: Rev. 05, 07/2010; PackageReference: PG-TO247-3-44_A; PackageDescription: 3-Pin Plastic (Green) Transistor Single Outline Package, 15.915 x 20.95 mm Body, 5.44 mm Pitch; Supplier 1: Farnell; Supplier Part Number 1: 2420493; Supplier 2: Newark; Supplier Part Number 2: 54X5235; Supplier 3: Mouser; Supplier Part Number 3: 726-IPW65R045C7; Halogen-free: available; Packing: Tube; Mounting Technology: Through Hole; ComponentLink1Description: Manufacturer URL; ComponentLink1URL: http://www.infineon.com/; ComponentLink2Description: Datasheet; ComponentLink2URL: http://www.infineon.com/dgdl/DS_IPW65R045C7_2_1.pdf?folderId=db3a30431ff98815012019af55de3f2c&fileId=db3a30433e78ea82013e7901c1200031; ComponentLink3Description: Package Specification; ComponentLink3URL: http://www.infineon.com/dgdl/IJW120R070T1-final+datasheet+2+0.pdf?folderId=db3a304341e0aed0014203508c870e38&fileId=db3a304341e0aed0014203597c420ec5
footprint INF-PG-TO247-3-44_A (FM, 3-Leads, Body 15.915x5.02mm, Pitch 5.44mm)
pins: 1 GATE, 2 DRAIN, 3 SOURCE

## IPW65R048CFDA
designator Q?
N-Channel CoolMOS CFDA Power-Transistor, 650 V VDS, 63.3 A ID, -40 to 150 degC, PG-TO247-3-44, Tube, Green; Manufacturer: Infineon; PartNumber: IPW65R048CFDA; Green: TRUE; ID (max): 63.3 A; IDpuls (max): 228 A; Polarity: N; Ptot (max): 500 W; QG: 270 nC; RDS (on) (max): 48 mOhm; Rth: 0.25 K/W; RthJA (max): 62 K/W; VDS (max): 650 V; VGS(th) (max): 4.5 V; VGS(th) (min): 3.5 V; DatasheetVersion: Rev. 2.0; PackageVersion: Rev. 03; PackageReference: PG-TO247-3-44; PackageDescription: 3-Pin Plastic (Green) Transistor Single Outline Package, 15.94 x 20.95 mm Body, 5.44 mm Pitch; Halogen-free: available; Packing: Tube; RthJC (max): 0.25 K/W; Technology: CoolMOS CFDA; Mounting Technology: Through Hole; ComponentLink1Description: Manufacturer URL; ComponentLink1URL: http://www.infineon.com/; ComponentLink2Description: Datasheet; ComponentLink2URL: http://www.infineon.com/dgdl/DS_IPW65R048CFDA_2_0.pdf?folderId=db3a3043163797a6011637d4bae7003b&fileId=db3a304336797ff90136ba294542255a; ComponentLink3Description: Package Specification; ComponentLink3URL: http://www.infineon.com/cms/packages/Leaded_and_through-hole/P-PG-TO247/P-PG-TO247-3-44.html?__locale=en
footprint INF-PG-TO247-3-44 (FM, 3-Leads, Body 5.02x15.94mm, Pitch 5.44mm)
pins: 1 GATE, 2 DRAIN, 3 SOURCE

## IPW65R065C7
designator Q?
N-Channel CoolMOS(TM) C7 Power Transistor, 650 V VDS, -55 to 150 degC, PG-TO247-3, Tube, Green; Manufacturer: Infineon; PartNumber: IPW65R065C7; Green: TRUE; Polarity: FALSE; RDS (on) (max): 65 mOhm; VDS (max): 650 V; DatasheetVersion: Rev. 2.0; PackageVersion: Rev. 05, 07/2010; PackageReference: PG-TO247-3-44_A; PackageDescription: 3-Pin Plastic (Green) Transistor Single Outline Package, 15.915 x 20.95 mm Body, 5.44 mm Pitch; Supplier 1: Mouser; Supplier Part Number 1: N/A; Halogen-free: TRUE; Packing: Tube; Mounting Technology: Through Hole; ComponentLink1Description: Manufacturer URL; ComponentLink1URL: http://www.infineon.com/; ComponentLink2Description: Datasheet; ComponentLink2URL: http://www.infineon.com/dgdl/DS_IPW65R065C7_2_0.pdf?folderId=db3a3043156fd5730115c736bcc70ff2&fileId=db3a30434208e5fd01420db363eb63ee; ComponentLink3Description: Package Specification; ComponentLink3URL: http://www.infineon.com/dgdl/IJW120R070T1-final+datasheet+2+0.pdf?folderId=db3a304341e0aed0014203508c870e38&fileId=db3a304341e0aed0014203597c420ec5
footprint INF-PG-TO247-3-44_A (FM, 3-Leads, Body 15.915x5.02mm, Pitch 5.44mm)
pins: 1 GATE, 2 DRAIN, 3 SOURCE

## IPW65R070C6
designator Q?
N-Channel CoolMOS C6 Power-Transistor, 650 V VDS, 53.5 A ID, -55 to 150 degC, PG-TO247-3-44, Tube, Green; Manufacturer: Infineon; PartNumber: IPW65R070C6; Green: TRUE; ID (max): 53.5 A; IDpuls (max): 150 A; Polarity: N; Ptot (max): 391 W; QG: 170 nC; RDS (on) (max): 70 mOhm; Rth: 0.32 K/W; RthJA (max): 62 K/W; VDS (max): 650 V; VGS(th) (max): 3.5 V; VGS(th) (min): 2.5 V; DatasheetVersion: Rev. 2.0; PackageVersion: Rev. 03; PackageReference: PG-TO247-3-44; PackageDescription: 3-Pin Plastic (Green) Transistor Single Outline Package, 15.94 x 20.95 mm Body, 5.44 mm Pitch; Supplier 1: Mouser; Supplier Part Number 1: 726-IPW65R070C6; Supplier 2: Digi-Key; Supplier Part Number 2: IPW65R070C6-ND; Halogen-free: available; Packing: Tube; RthJC (max): 0.32 K/W; Technology: CoolMOS C6; Mounting Technology: Through Hole; ComponentLink1Description: Manufacturer URL; ComponentLink1URL: http://www.infineon.com/; ComponentLink2Description: Datasheet; ComponentLink2URL: http://www.infineon.com/dgdl/IPW65R070C6_2_0.pdf?folderId=db3a3043163797a6011637d4bae7003b&fileId=db3a30432ea425a4012ed7911cbf3821; ComponentLink3Description: Package Specification; ComponentLink3URL: http://www.infineon.com/cms/packages/Leaded_and_through-hole/P-PG-TO247/P-PG-TO247-3-44.html?__locale=en
footprint INF-PG-TO247-3-44 (FM, 3-Leads, Body 5.02x15.94mm, Pitch 5.44mm)
pins: 1 GATE, 2 DRAIN, 3 SOURCE

## IPW65R080CFD
designator Q?
N-Channel CoolMOS CFD Power-Transistor, 650 V VDS, 43.3 A ID, -55 to 150 degC, PG-TO247-3-44, Tube, Green; Manufacturer: Infineon; PartNumber: IPW65R080CFD; Green: TRUE; ID (max): 43.3 A; IDpuls (max): 137 A; Polarity: N; Ptot (max): 391 W; QG: 170 nC; RDS (on) (max): 80 mOhm; Rth: 0.32 K/W; RthJA (max): 62 K/W; VDS (max): 650 V; VGS(th) (max): 4.5 V; VGS(th) (min): 3.5 V; DatasheetVersion: Rev. 2.0; PackageVersion: Rev. 03; PackageReference: PG-TO247-3-44; PackageDescription: 3-Pin Plastic (Green) Transistor Single Outline Package, 15.94 x 20.95 mm Body, 5.44 mm Pitch; Supplier 1: Mouser; Supplier Part Number 1: 726-IPW65R080CFD; Supplier 2: Newark; Supplier Part Number 2: 47W3485; Supplier 3: Farnell; Supplier Part Number 3: 2212841; Supplier 4: Digi-Key; Supplier Part Number 4: IPW65R080CFD-ND; Halogen-free: available; Packing: Tube; RthJC (max): 0.32 K/W; Technology: CoolMOS CFD2; Mounting Technology: Through Hole; ComponentLink1Description: Manufacturer URL; ComponentLink1URL: http://www.infineon.com/; ComponentLink2Description: Datasheet; ComponentLink2URL: http://www.infineon.com/dgdl/IPW65R080CFD_2_0.pdf?folderId=db3a3043163797a6011637d4e912003c&fileId=db3a30432e0bea21012e14e6178c6e0a; ComponentLink3Description: Package Specification; ComponentLink3URL: http://www.infineon.com/cms/packages/Leaded_and_through-hole/P-PG-TO247/P-PG-TO247-3-44.html?__locale=en
footprint INF-PG-TO247-3-44 (FM, 3-Leads, Body 5.02x15.94mm, Pitch 5.44mm)
pins: 1 GATE, 2 DRAIN, 3 SOURCE

## IPW65R080CFDA
designator Q?
N-Channel CoolMOS CFDA Power-Transistor, 650 V VDS, 43.3 A ID, -40 to 150 degC, PG-TO247-3-44, Tube, Green; Manufacturer: Infineon; PartNumber: IPW65R080CFDA; Green: TRUE; ID (max): 43.3 A; IDpuls (max): 137 A; Polarity: N; Ptot (max): 391 W; QG: 161 nC; RDS (on) (max): 80 mOhm; Rth: 0.32 K/W; RthJA (max): 62 K/W; VDS (max): 650 V; VGS(th) (max): 4.5 V; VGS(th) (min): 3.5 V; DatasheetVersion: Rev. 2.0; PackageVersion: Rev. 03; PackageReference: PG-TO247-3-44; PackageDescription: 3-Pin Plastic (Green) Transistor Single Outline Package, 15.94 x 20.95 mm Body, 5.44 mm Pitch; Halogen-free: available; Packing: Tube; RthJC (max): 0.32 K/W; Technology: CoolMOS CFDA; Mounting Technology: Through Hole; ComponentLink1Description: Manufacturer URL; ComponentLink1URL: http://www.infineon.com/; ComponentLink2Description: Datasheet; ComponentLink2URL: http://www.infineon.com/dgdl/DS_IPW65R080CFDA_2_0.pdf?folderId=db3a3043163797a6011637d4bae7003b&fileId=db3a304336797ff90136ba619f7a2584; ComponentLink3Description: Package Specification; ComponentLink3URL: http://www.infineon.com/cms/packages/Leaded_and_through-hole/P-PG-TO247/P-PG-TO247-3-44.html?__locale=en
footprint INF-PG-TO247-3-44 (FM, 3-Leads, Body 5.02x15.94mm, Pitch 5.44mm)
pins: 1 GATE, 2 DRAIN, 3 SOURCE

## IPW65R095C7
designator Q?
N-Channel CoolMOS(TM) C7 Power Transistor, 650 V VDS, -55 to 150 degC, PG-TO247-3, Tube, Green; Manufacturer: Infineon; PartNumber: IPW65R095C7; Green: TRUE; Polarity: FALSE; RDS (on) (max): 95 mOhm; VDS (max): 650 V; DatasheetVersion: Rev. 2.0; PackageVersion: Rev. 05, 07/2010; PackageReference: PG-TO247-3-44_A; PackageDescription: 3-Pin Plastic (Green) Transistor Single Outline Package, 15.915 x 20.95 mm Body, 5.44 mm Pitch; Supplier 1: Farnell; Supplier Part Number 1: 2420506; Supplier 2: Newark; Supplier Part Number 2: 54X5236; Supplier 3: Mouser; Supplier Part Number 3: N/A; Halogen-free: TRUE; Packing: Tube; Mounting Technology: Through Hole; ComponentLink1Description: Manufacturer URL; ComponentLink1URL: http://www.infineon.com/; ComponentLink2Description: Datasheet; ComponentLink2URL: http://www.infineon.com/dgdl/DS_IPW65R095C7_2_0.pdf?folderId=db3a3043156fd5730115c736bcc70ff2&fileId=db3a30434208e5fd01420de7a9d56470; ComponentLink3Description: Package Specification; ComponentLink3URL: http://www.infineon.com/dgdl/IJW120R070T1-final+datasheet+2+0.pdf?folderId=db3a304341e0aed0014203508c870e38&fileId=db3a304341e0aed0014203597c420ec5
footprint INF-PG-TO247-3-44_A (FM, 3-Leads, Body 15.915x5.02mm, Pitch 5.44mm)
pins: 1 GATE, 2 DRAIN, 3 SOURCE